# Altium footprint library TO-PMOD-7.PcbLib: 1 footprints
Each footprint in its own frame and in the unit in brackets; x right, y up, seen from the top. Pads: shape width x height; smd on the part's side, far side on the other; paste and mask are expansions set on the pad; w line width, h text height; cw(c..) or ccw(c..) is an arc to the next point about the centre after c.
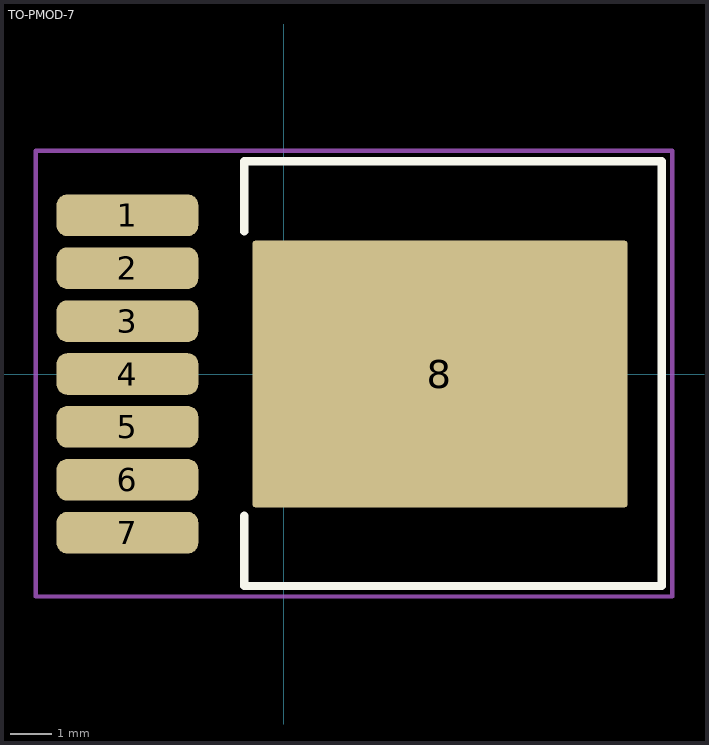
[diagram p0: the footprint, top view; thin cyan lines are the x and y axes]

## TO-PMOD-7 [mm]
pads (8):
  rrect50% 3.4x1 smd: 1(-3.75,3.81) 2(-3.75,2.54) 3(-3.75,1.27) 4(-3.75,0) 5(-3.75,-1.27) 6(-3.75,-2.54) 7(-3.75,-3.81)
  rrect2% 9x6.4 smd: 8(3.75,0)
Top Overlay:
  lines w0.2: -0.95,-3.4 -0.95,-5.09 9.075,-5.09 9.075,5.11 -0.95,5.11 -0.95,3.42
Top Courtyard:
  lines w0.1: -5.95,-5.34 -5.95,5.36 9.325,5.36 9.325,-5.34 -0.95,-5.34 -5.95,-5.34
3D body "NOPB.STEP": height 4.67, standoff -0.15, extent -4.775,-5.08 8.995,5.08